# Altium schematic symbol library Schlib1.SchLib: 1 symbol
Pins are listed as number, name and electrical type; pins without a type are passive.

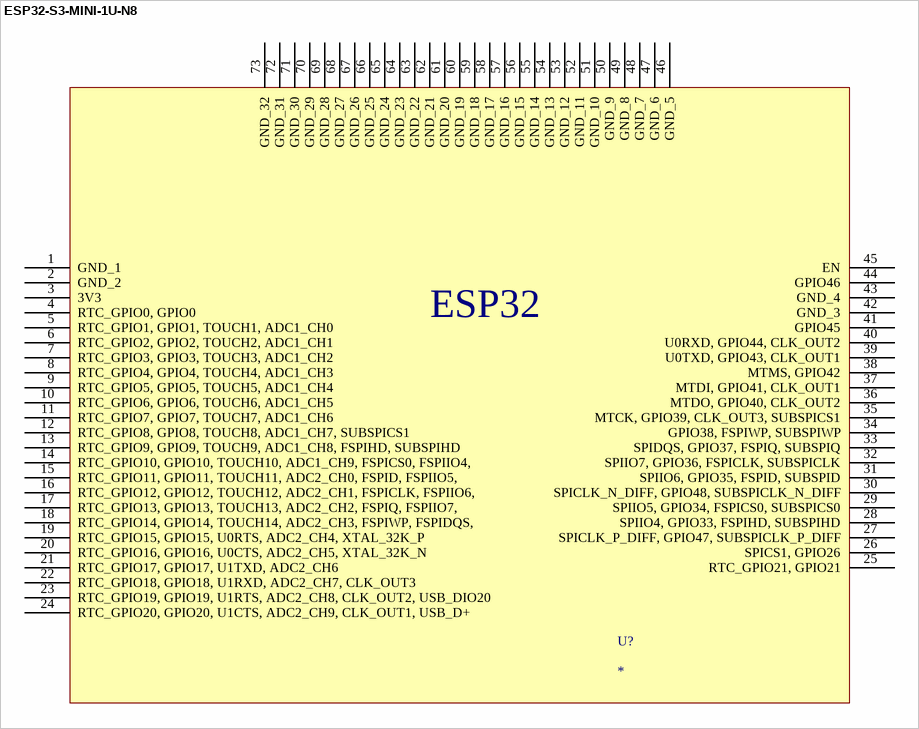
[diagram p0: symbol ESP32-S3-MINI-1U-N8]

## ESP32-S3-MINI-1U-N8
designator U?
Manufacturer: Espressif Systems; Manufacturer Part Number: ESP32-S3-MINI-1U-N8; Supplier: Digikey; Supplier Part Number: 1965-ESP32-S3-MINI-1U-N8CT-ND; RoHS: No; Category: LDO; Stock: 2332; Pricing: 1=3.1 (USD)
footprint XCVR_ESP32-S3-MINI-1-N8
pins: 1 GND_1, 2 GND_2, 3 3V3, 4 RTC_GPIO0, GPIO0, 5 RTC_GPIO1, GPIO1, TOUCH1, ADC1_CH0, 6 RTC_GPIO2, GPIO2, TOUCH2, ADC1_CH1, 7 RTC_GPIO3, GPIO3, TOUCH3, ADC1_CH2, 8 RTC_GPIO4, GPIO4, TOUCH4, ADC1_CH3, 9 RTC_GPIO5, GPIO5, TOUCH5, ADC1_CH4, 10 RTC_GPIO6, GPIO6, TOUCH6, ADC1_CH5, 11 RTC_GPIO7, GPIO7, TOUCH7, ADC1_CH6, 12 RTC_GPIO8, GPIO8, TOUCH8, ADC1_CH7, SUBSPICS1, 13 RTC_GPIO9, GPIO9, TOUCH9, ADC1_CH8, FSPIHD, SUBSPIHD, 14 RTC_GPIO10, GPIO10, TOUCH10, ADC1_CH9, FSPICS0, FSPIIO4,, 15 RTC_GPIO11, GPIO11, TOUCH11, ADC2_CH0, FSPID, FSPIIO5,, 16 RTC_GPIO12, GPIO12, TOUCH12, ADC2_CH1, FSPICLK, FSPIIO6,, 17 RTC_GPIO13, GPIO13, TOUCH13, ADC2_CH2, FSPIQ, FSPIIO7,, 18 RTC_GPIO14, GPIO14, TOUCH14, ADC2_CH3, FSPIWP, FSPIDQS,, 19 RTC_GPIO15, GPIO15, U0RTS, ADC2_CH4, XTAL_32K_P, 20 RTC_GPIO16, GPIO16, U0CTS, ADC2_CH5, XTAL_32K_N, 21 RTC_GPIO17, GPIO17, U1TXD, ADC2_CH6, 22 RTC_GPIO18, GPIO18, U1RXD, ADC2_CH7, CLK_OUT3, 23 RTC_GPIO19, GPIO19, U1RTS, ADC2_CH8, CLK_OUT2, USB_DIO20, 24 RTC_GPIO20, GPIO20, U1CTS, ADC2_CH9, CLK_OUT1, USB_D+, 25 RTC_GPIO21, GPIO21, 26 SPICS1, GPIO26, 27 SPICLK_P_DIFF, GPIO47, SUBSPICLK_P_DIFF, 28 SPIIO4, GPIO33, FSPIHD, SUBSPIHD, 29 SPIIO5, GPIO34, FSPICS0, SUBSPICS0, 30 SPICLK_N_DIFF, GPIO48, SUBSPICLK_N_DIFF, 31 SPIIO6, GPIO35, FSPID, SUBSPID, 32 SPIIO7, GPIO36, FSPICLK, SUBSPICLK, 33 SPIDQS, GPIO37, FSPIQ, SUBSPIQ, 34 GPIO38, FSPIWP, SUBSPIWP, 35 MTCK, GPIO39, CLK_OUT3, SUBSPICS1, 36 MTDO, GPIO40, CLK_OUT2, 37 MTDI, GPIO41, CLK_OUT1, 38 MTMS, GPIO42, 39 U0TXD, GPIO43, CLK_OUT1, 40 U0RXD, GPIO44, CLK_OUT2, 41 GPIO45, 42 GND_3, 43 GND_4, 44 GPIO46, 45 EN, 46 GND_5, 47 GND_6, 48 GND_7, 49 GND_8, 50 GND_9, 51 GND_10, 52 GND_11, 53 GND_12, 54 GND_13, 55 GND_14, 56 GND_15, 57 GND_16, 58 GND_17, 59 GND_18, 60 GND_19, 61 GND_20, 62 GND_21, 63 GND_22, 64 GND_23, 65 GND_24, 66 GND_25, 67 GND_26, 68 GND_27, 69 GND_28, 70 GND_29, 71 GND_30, 72 GND_31, 73 GND_32
text: ESP32